# Altium footprint library Tu dien.PcbLib: 68 footprints (part 4 of 5)
Each footprint in its own frame and in the unit in brackets; x right, y up, seen from the top. Pads: shape width x height; smd on the part's side, far side on the other; paste and mask are expansions set on the pad; w line width, h text height; cw(c..) or ccw(c..) is an arc to the next point about the centre after c.
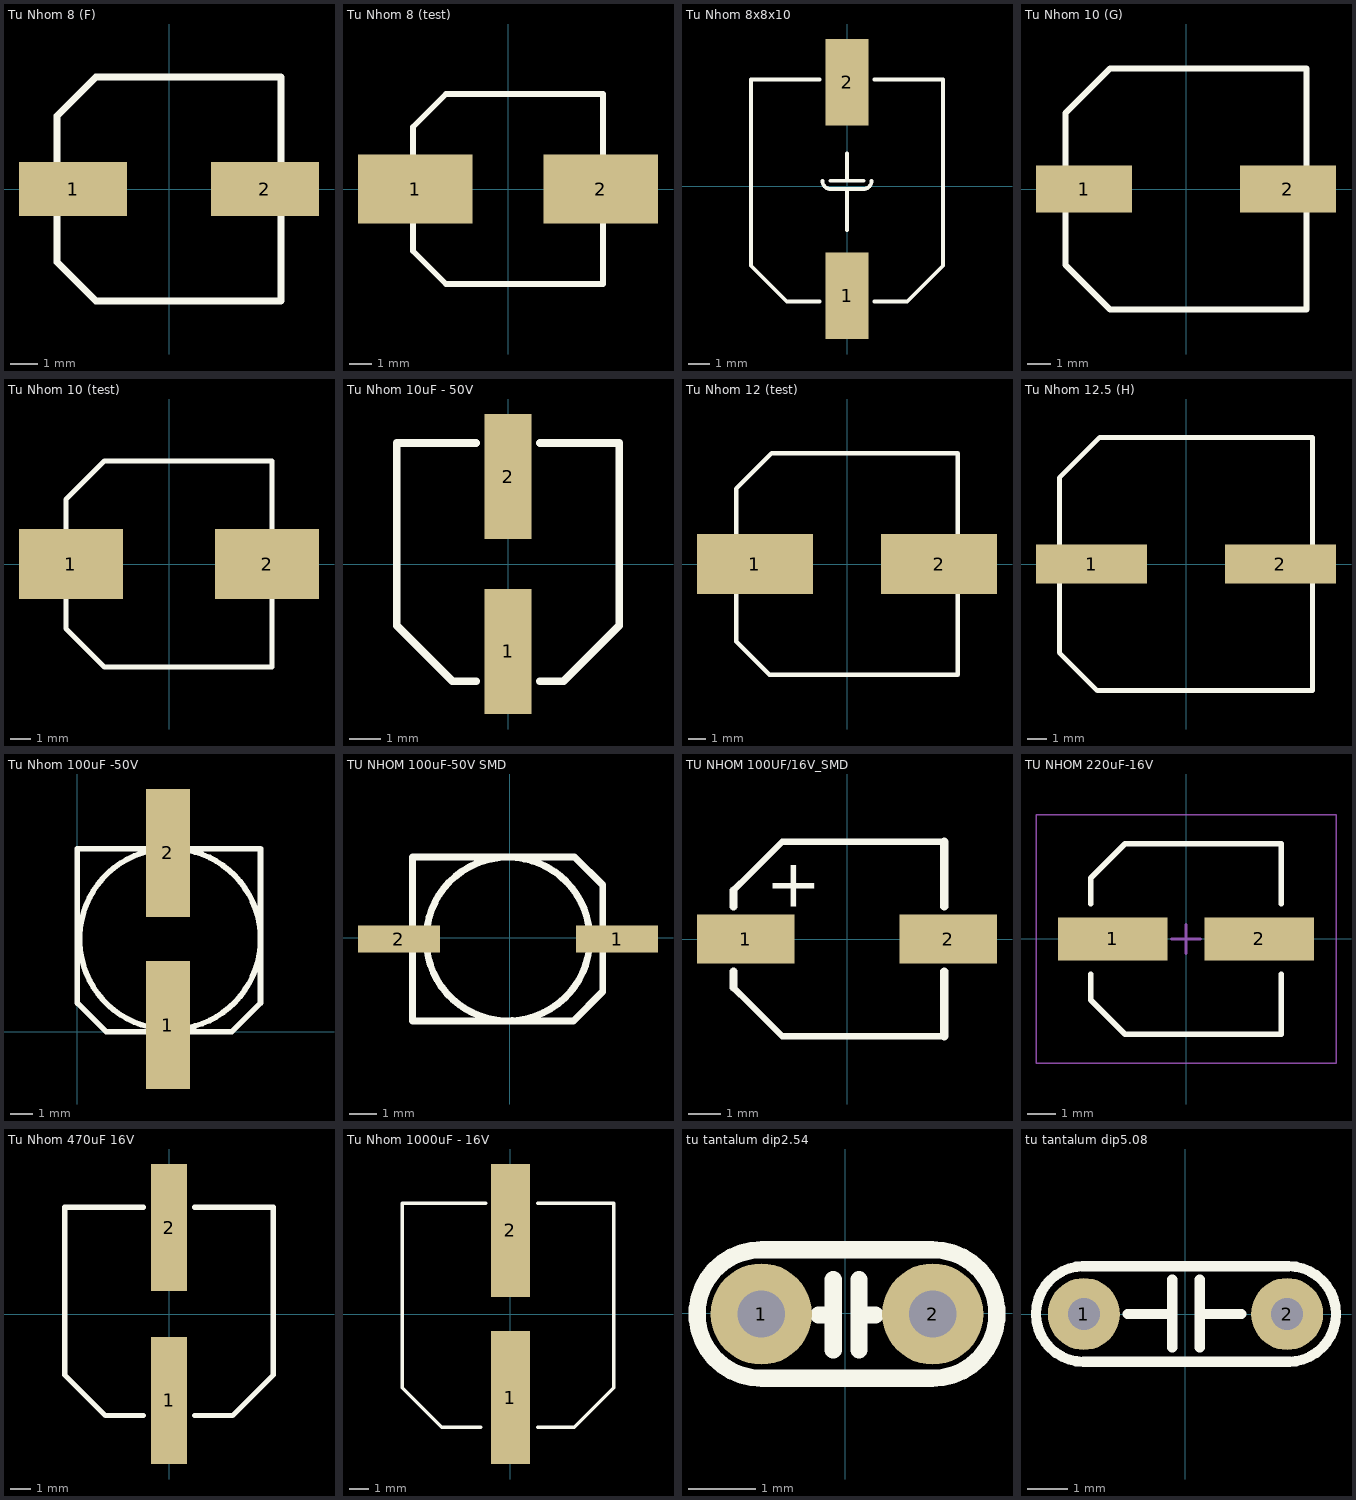
[diagram p3: the footprints below, top view; thin cyan lines are the x and y axes]

## Tu Nhom 8 (F) [mm]
pads (2):
  rect 4x2 smd: 1(-3.55,0) 2(3.55,0)
Top Overlay:
  lines w0.254: -4.15,-2.708 -2.708,-4.15 4.15,-4.15 4.15,4.15 -2.708,4.15 -4.15,2.708 -4.15,-2.708
3D body "aluminum capacitor 8mm.STEP": height 10.5, standoff 0, extent -4.852,-4.25 4.848,4.25

## Tu Nhom 8 (test) [mm]
pads (2):
  rect 5x3 smd: 1(-4.05,0) 2(4.05,0)
Top Overlay:
  lines w0.254: -4.15,-2.708 -2.708,-4.15 4.15,-4.15 4.15,4.15 -2.708,4.15 -4.15,2.708 -4.15,-2.708
3D body "aluminum capacitor 8mm.STEP": height 10.5, standoff 0, extent -4.852,-4.25 4.848,4.25

## Tu Nhom 8x8x10 [mm] "100uF-50v"
pads (2):
  rect 2x4 smd: 1(0,-5.08) 2(0,4.826)
Top Overlay:
  lines w0.178: -1.27,-5.334 -2.794,-5.334 -4.445,-3.683 -4.445,4.953 -1.27,4.953 ; -1.143,0.254 ccw(c-0.762,0.254) -0.762,-0.127 0,-0.127 ; -0.762,0.254 0.762,0.254 ; 0,-2.032 0,-0.127 ; 0,0.254 0,1.524 ; 1.143,0.254 cw(c0.762,0.254) 0.762,-0.127 0,-0.127 ; 1.27,-5.334 2.794,-5.334 4.445,-3.683 4.445,4.953 1.27,4.953
3D body "Tu nhom 8x8x10.STEP": height 10.51, standoff 0.01, extent -4.25,-5.106 4.25,4.594

## Tu Nhom 10 (G) [mm]
pads (2):
  rect 4.1x2 smd: 1(-4.35,0) 2(4.35,0)
Top Overlay:
  lines w0.254: -5.15,-3.232 -3.232,-5.15 5.15,-5.15 5.15,5.15 -3.232,5.15 -5.15,3.232 -5.15,-3.232
3D body "alumimun capacitor 10mm.STEP": height 10.5, standoff 0, extent -5.901,-5.25 5.899,5.25

## Tu Nhom 10 (test) [mm]
pads (2):
  rect 5.2x3.5 smd: 1(-4.9,0) 2(4.9,0)
Top Overlay:
  lines w0.254: -5.15,-3.232 -5.15,3.232 -3.232,5.15 5.15,5.15 5.15,-5.15 -3.232,-5.15 -5.15,-3.232
3D body "alumimun capacitor 10mm.STEP": height 10.5, standoff 0, extent -5.901,-5.25 5.899,5.25

## Tu Nhom 10uF - 50V [mm]
pads (2):
  rect 1.5x4 smd: 1(0,-2.794) 2(0,2.794)
Top Overlay:
  lines w0.254: -1.016,-3.746 -1.778,-3.746 -3.556,-1.968 -3.556,3.873 -1.016,3.873 ; 1.016,-3.746 1.778,-3.746 3.556,-1.968 3.556,3.873 1.016,3.873
3D body "Tu Nhom 27uF 20V.step": height 6.15, standoff 0.2, extent -3.3,-3.587 3.3,3.713

## Tu Nhom 12 (test) [mm]
pads (2):
  rect 6.8x3.5 smd: 1(-5.4,0) 2(5.4,0)
Top Overlay:
  lines w0.254: -6.5,-4.549 -6.5,4.422 -4.422,6.5 6.5,6.5 6.5,-6.5 -4.549,-6.5 -6.5,-4.549

## Tu Nhom 12.5 (H) [mm]
pads (2):
  rect 5.7x2 smd: 1(-4.85,0) 2(4.85,0)
Top Overlay:
  lines w0.254: -6.5,-4.549 -6.5,4.422 -4.422,6.5 6.5,6.5 6.5,-6.5 -4.549,-6.5 -6.5,-4.549

## Tu Nhom 100uF -50V [mm]
pads (2):
  rect 2x5.8 smd: 1(4.1,0.3) 2(4.1,8.1)
Top Overlay:
  circle w0.254: c4.2,4.2 r4.105
  lines w0.254: 1.4,0 1.3,0 ; 1.3,0 0,1.3 0,1.4 0,8.3 8.3,8.3 8.3,1.3 7,0 1.3,0
3D body "Tu nhom 180uF 16V.step": height 7.9, standoff -0.05, extent -1.086,-1.309 9.214,9.691

## TU NHOM 100uF-50V SMD [mm]
pads (2):
  rect 3x1 smd: 1(3.929,-0.048) 2(-4.071,-0.048)
Top Overlay:
  lines w0.254: -0.081,2.952 ccw(c-0.071,-0.048) -0.071,2.952 ; 2.362,2.952 -3.571,2.952 -3.571,-3.048 2.004,-3.048 2.337,-3.048 3.404,-1.981 3.404,-1.648 ; 2.388,2.946 3.404,1.93 3.404,-1.748
3D body "CAP22uF 20V.step": height 5.9, standoff -0.05, extent -3.65,-3.427 3.65,3.173

## TU NHOM 100UF/16V_SMD [mil]
pads (2):
  rect 120x60 smd: 1(-125,0) 2(125,0)
Top Overlay:
  lines w8: -140,-60 -120,-80 -80,-120 120,-120 ; -140,60 -120,80 -80,120 120,120
  lines w10: -140,-60 -140,-40 ; -140,40 -140,60 ; 120,-120 120,-40 ; 120,40 120,120
  text "+" at -100,40 h60

## TU NHOM 220uF-16V [mm]
pads (2):
  rect 3.8x1.5 smd: 1(-2.54,0) 2(2.54,0)
Top Overlay:
  lines w0.2: -3.3,-1.225 -3.3,-2.113 -2.113,-3.3 3.3,-3.3 3.3,-1.225 ; -3.3,1.225 -3.3,2.113 -2.113,3.3 3.3,3.3 3.3,1.225
Mechanical 15:
  lines w0.05: -5.2,-4.3 -5.2,4.3 5.2,4.3 5.2,-4.3 -5.2,-4.3
  lines w0.1: -0.5,0 0.5,0 ; 0,-0.5 0,0.5
3D body: height 2.62, standoff 0, extent -3.3,-3.3 3.3,3.3
3D body: height 7.85, standoff 0, extent -3.15,-3.15 3.15,3.15

## Tu Nhom 470uF 16V [mil]
pads (2):
  rect 70x250 smd: 1(0,-170) 2(0,170)
Top Overlay:
  lines w10: -50,-200 -125,-200 -205,-120 -205,210 -50,210 ; 50,-200 125,-200 205,-120 205,210 50,210
3D body "Tu nhom 470uF 6,3V.step": height 316.06, standoff 3.03, extent -205,-216.53 200.51,216.53

## Tu Nhom 1000uF - 16V [mil]
pads (2):
  rect 80x270 smd: 1(0,-170) 2(0,170)
Top Overlay:
  lines w7: -60,-230 -140,-230 -220,-150 -220,225 -50,225 ; 55,-230 130,-230 210,-150 210,225 55,225
3D body "Tu nhom 180uF 16V.step": height 321.06, standoff 8.03, extent -204.17,-218.34 201.34,214.73

## tu tantalum dip2.54 [mm]
pads (2):
  round 1.5 hole 0.7: 1(-1.245,-0.013) 2(1.295,-0.013)
Top Overlay:
  lines w0.254: -0.394,-0.025 -0.178,-0.025 ; -0.178,-0.546 -0.178,0.495 ; 0.203,-0.546 0.203,0.495 ; 0.203,-0.025 0.445,-0.025 ; -1.232,-0.966 cw(c-1.245,-0.013) -1.232,0.94 1.282,0.94 cw(c1.295,-0.013) 1.282,-0.966 -1.232,-0.966
3D body "CAP_TANT_DIP2.54.step": height 11.02, standoff 0, extent -2.119,-2.184 2.261,2.2

## tu tantalum dip5.08 [mm]
pads (2):
  round 1.8 hole 0.8: 1(-2.54,0) 2(2.54,0)
Top Overlay:
  lines w0.254: -2.565,1.194 2.565,1.194 ; -2.541,-1.195 cw(c-2.54,0) -2.541,1.195 ; -2.489,-1.194 2.591,-1.194 ; -1.448,0 -0.406,0 ; -0.33,-0.838 -0.33,0.864 ; 0.356,-0.838 0.356,0.864 ; 0.356,0 1.397,0 ; 2.566,-1.195 ccw(c2.565,0) 2.566,1.195
3D body "TU_TATA_5.08.step": height 6.27, standoff -0.47, extent -2.819,-1.079 2.769,1.08